# Altium schematic symbol library LTC3631EMS8E.SchLib: 1 symbol
Pins are listed as number, name and electrical type; pins without a type are passive.

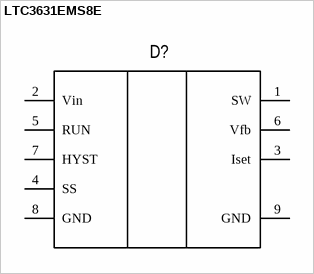
[diagram p0: symbol LTC3631EMS8E]

## LTC3631EMS8E
designator D?
pins: 1 SW, 2 Vin, 3 Iset, 4 SS, 5 RUN, 6 Vfb, 7 HYST, 8 GND, 9 GND